# EAGLE library part POLOLU_TB67 (library CUCombatBots)
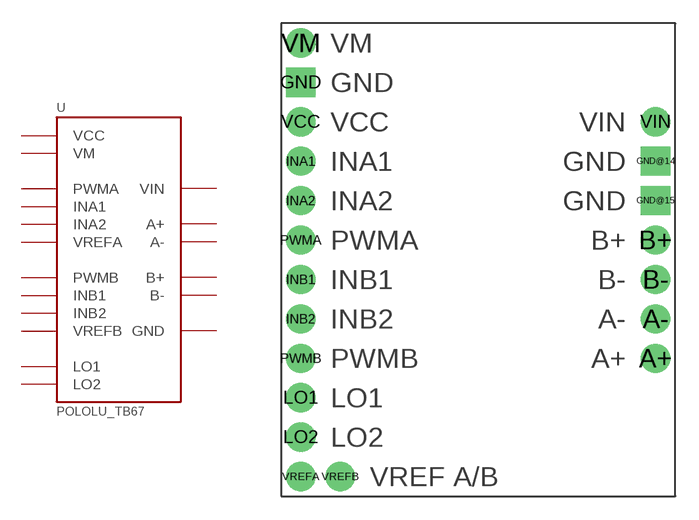
[diagram p2: symbol with the pads of POLOLU_TB67; footprint POLOLU_TB67]

Designator prefix U

## POLOLU_TB67  [POLOLU_TB67]
A+  A+
A-  A-
B+  B+
B-  B-
GND  GND
GND@14  GND
GND@15  GND
INA1  INA1
INA2  INA2
INB1  INB1
INB2  INB2
LO1  LO1
LO2  LO2
PWMA  PWMA
PWMB  PWMB
VCC  VCC
VIN  VIN
VM  VM
VREFA  VREFA
VREFB  VREFB

## Footprint POLOLU_TB67 (pad centres in mm)
drill 1.016 pad 1.88: A+ 11.43,-6.35; A- 11.43,-3.81; B+ 11.43,1.27; B- 11.43,-1.27; INA1 -11.43,6.35; INA2 -11.43,3.81; INB1 -11.43,-1.27; INB2 -11.43,-3.81; LO1 -11.43,-8.89; LO2 -11.43,-11.43; PWMA -11.43,1.27; PWMB -11.43,-6.35; VCC -11.43,8.89; VIN 11.43,8.89; VM -11.43,13.97; VREFA -11.43,-13.97; VREFB -8.89,-13.97
drill 1.016 pad 1.88 square: GND -11.43,11.43; GND@14 11.43,6.35; GND@15 11.43,3.81